# Altium schematic symbol library 1N4148W-13-F.SchLib: 2 symbols
Pins are listed as number, name and electrical type; pins without a type are passive.

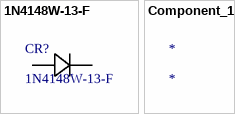
[diagram p0: symbols 1N4148W-13-F to Component_1]

## 1N4148W-13-F
designator CR?
No Description Available; Vendor: Diodes Inc; Built_By: EMA_UL_Team; SourceLibrary: DiodesInc_2015-05-08; Type: DEV; Manufacturer_Part_Number: 1N4148W-13-F; Copyright: Copyright (C) 2021 Accelerated Designs. All rights reserved; RefDes: RefDes
footprint SOD123_DIO
pins: 1, 2

## Component_1
designator *